# EAGLE library part WTS701 (library winbond)
Single-Chip Text-to-Speech Processor
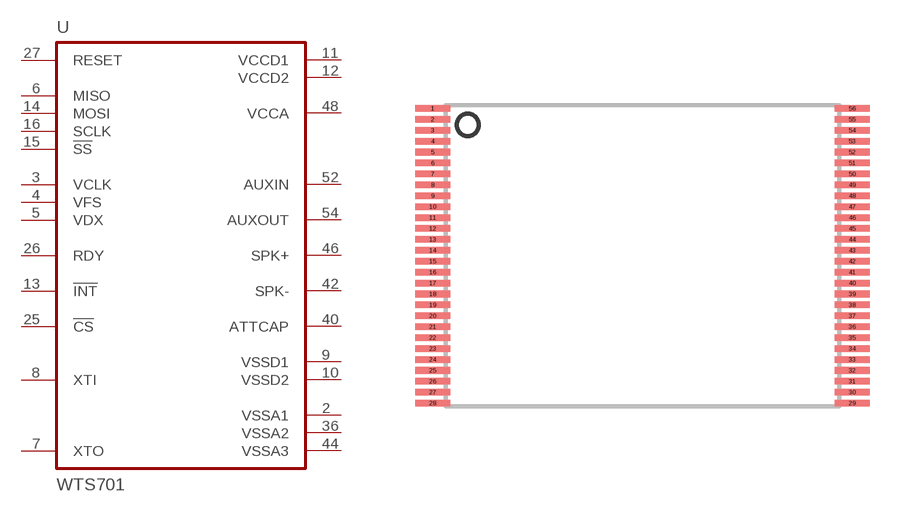
[diagram p0: symbol with the pads of TSOP56L; footprint TSOP56L]

Designator prefix U

## WTS701  [TSOP56L]
2  VSSA1
3  VCLK
4  VFS
5  VDX  out
6  MISO  out
7  XTO  pas
8  XTI  pas
9  VSSD1
10  VSSD2
11  VCCD1
12  VCCD2
13  !INT!  out
14  MOSI  in
15  !SS!  in
16  SCLK  in
25  !CS!
26  RDY
27  RESET  in
36  VSSA2
40  ATTCAP  pas
42  SPK-
44  VSSA3
46  SPK+
48  VCCA
52  AUXIN
54  AUXOUT

## Footprint TSOP56L (pad centres in mm)
Thin Small Outline Package
smd 1.6 x 0.3: 1 -9.6,6.75; 2 -9.6,6.25; 3 -9.6,5.75; 4 -9.6,5.25; 5 -9.6,4.75; 6 -9.6,4.25; 7 -9.6,3.75; 8 -9.6,3.25; 9 -9.6,2.75; 10 -9.6,2.25; 11 -9.6,1.75; 12 -9.6,1.25; 13 -9.6,0.75; 14 -9.6,0.25; 15 -9.6,-0.25; 16 -9.6,-0.75; 17 -9.6,-1.25; 18 -9.6,-1.75; 19 -9.6,-2.25; 20 -9.6,-2.75; 21 -9.6,-3.25; 22 -9.6,-3.75; 23 -9.6,-4.25; 24 -9.6,-4.75; 25 -9.6,-5.25; 26 -9.6,-5.75; 27 -9.6,-6.25; 28 -9.6,-6.75; 29 9.6,-6.75; 30 9.6,-6.25; 31 9.6,-5.75; 32 9.6,-5.25; 33 9.6,-4.75; 34 9.6,-4.25; 35 9.6,-3.75; 36 9.6,-3.25; 37 9.6,-2.75; 38 9.6,-2.25; 39 9.6,-1.75; 40 9.6,-1.25; 41 9.6,-0.75; 42 9.6,-0.25; 43 9.6,0.25; 44 9.6,0.75; 45 9.6,1.25; 46 9.6,1.75; 47 9.6,2.25; 48 9.6,2.75; 49 9.6,3.25; 50 9.6,3.75; 51 9.6,4.25; 52 9.6,4.75; 53 9.6,5.25; 54 9.6,5.75; 55 9.6,6.25; 56 9.6,6.75